# EAGLE library part CPL-CON-JST-2.0MM-6P-M-SMT-RA (library TinWhiskers)
Connector: 2.0mm Pitch, 6-POS, Pins, Shrouded; Package: PH-Series (SMT, R/A); Datasheet: http://www.jst-mfg.com/product/pdf/eng/ePH.pdf
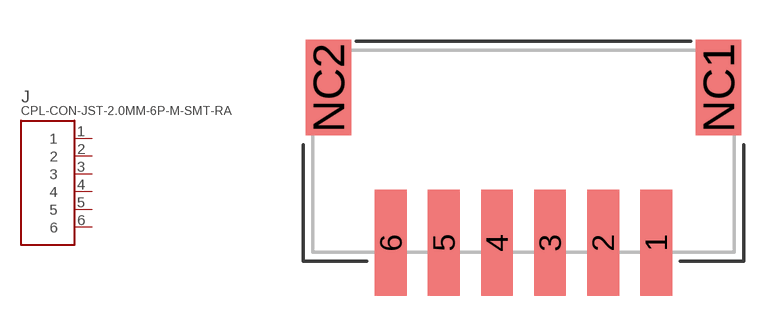
[diagram p19: symbol with the pads of CON-JST-PH-2.0MM-6P-SMT-RA; footprint CON-JST-PH-2.0MM-6P-SMT-RA]

Designator prefix J

## CPL-CON-JST-2.0MM-6P-M-SMT-RA  [CON-JST-PH-2.0MM-6P-SMT-RA]
1  1
2  2
3  3
4  4
5  5
6  6

## Footprint CON-JST-PH-2.0MM-6P-SMT-RA (pad centres in mm)
Connector: 2.0mm Pitch, 6-POS, Pins, Shrouded; Package: PH-Series (SMT, R/A); Datasheet: http://www.jst-mfg.com/product/pdf/eng/ePH.pdf
smd 1.2 x 4: 1 5,0; 2 3,0; 3 1,0; 4 -1,0; 5 -3,0; 6 -5,0
smd 1.7 x 3.6: NC1 7.35,5.85; NC2 -7.35,5.85